# EAGLE library part TPS61230 (library Custom_Library)
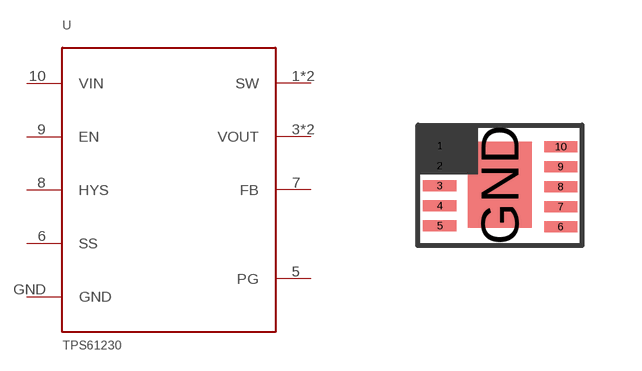
[diagram p24: symbol with the pads of VSON10; footprint VSON10]

Designator prefix U

## TPS61230  [VSON10]
1  SW
2  SW
3  VOUT
4  VOUT
5  PG
6  SS
7  FB
8  HYS
9  EN
10  VIN
GND  GND

## Footprint VSON10 (pad centres in mm)
smd 0.825 x 0.28: 1 -1.5,1; 2 -1.5,0.5; 3 -1.5,0; 4 -1.5,-0.5; 5 -1.5,-1; 6 1.525,-1.025; 7 1.525,-0.525; 8 1.525,-0.025; 9 1.525,0.475; 10 1.525,0.975
smd 1.6 x 2.15: GND 0,0.025